# EAGLE library part GPS-PA6H1F1525 (library GPS-power)
GPS-PA6H1F1525
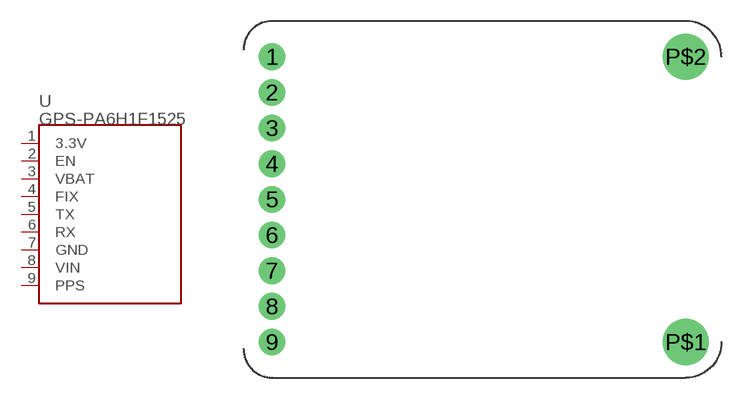
[diagram p0: symbol with the pads of GPS-PA6H1F1525; footprint GPS-PA6H1F1525]

Designator prefix -

## GPS-PA6H1F1525  [GPS-PA6H1F1525]
1  3.3V
2  EN
3  VBAT
4  FIX
5  TX
6  RX
7  GND
8  VIN
9  PPS

## Footprint GPS-PA6H1F1525 (pad centres in mm)
GPS-PA6H1F1525
drill 1.27: 1 -29.464,20.32; 2 -29.464,17.78; 3 -29.464,15.24; 4 -29.464,12.7; 5 -29.464,10.16; 6 -29.464,7.62; 7 -29.464,5.08; 8 -29.464,2.54; 9 -29.464,0
drill 2.286: P$1 0,0; P$2 0,20.32